# EAGLE library part GRPB052VWQP-RC (library MILESTONE4LIB_E)
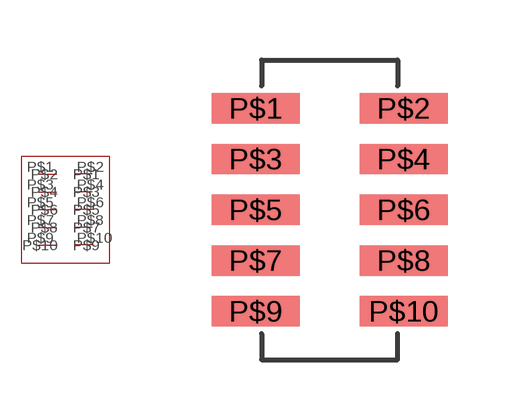
[diagram p6: symbol with the pads of VWQS5X2; footprint VWQS5X2]

Designator prefix -

## GRPB052VWQP-RC  [VWQS5X2]
P$1  P$1
P$2  P$2
P$3  P$3
P$4  P$4
P$5  P$5
P$6  P$6
P$7  P$7
P$8  P$8
P$9  P$9
P$10  P$10

## Footprint VWQS5X2 (pad centres in mm)
smd 2.2 x 0.76: P$1 -1.85,2.54; P$2 1.85,2.54; P$3 -1.85,1.27; P$4 1.85,1.27; P$5 -1.85,0; P$6 1.85,0; P$7 -1.85,-1.27; P$8 1.85,-1.27; P$9 -1.85,-2.54; P$10 1.85,-2.54